# EAGLE library part FET_DMN2990UDJ-7 (library 0-micromouse2019)
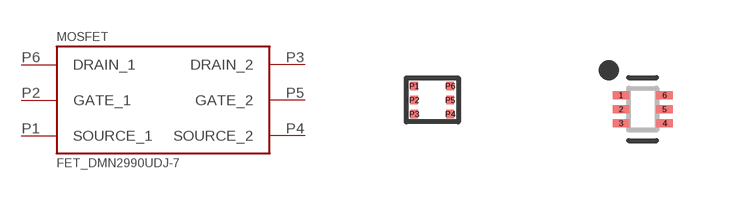
[diagram p0: symbol with the pads of DMN2990UDJ-7; footprints DMN2990UDJ-7, SOTFL35P100X50-6]

Designator prefix MOSFET

## FET_DMN2990UDJ-7OBSOLETE  [DMN2990UDJ-7]
P1  SOURCE_1  pas
P2  GATE_1  in
P3  DRAIN_2  pas
P4  SOURCE_2  pas
P5  GATE_2  in
P6  DRAIN_1  pas

## FET_DMN2990UDJ-7  [SOTFL35P100X50-6]
1  SOURCE_1  pas
2  GATE_1  in
3  DRAIN_2  pas
4  SOURCE_2  pas
5  GATE_2  in
6  DRAIN_1  pas

## Footprint DMN2990UDJ-7 (pad centres in mm)
SOT-963
smd 0.2 x 0.2: P1 -0.45,0.35; P2 -0.45,0; P3 -0.45,-0.35; P4 0.45,-0.35; P5 0.45,0; P6 0.45,0.35

## Footprint SOTFL35P100X50-6 (pad centres in mm)
6-SOTFL, 0.35 mm pitch, 1.00 mm span, 1.00 X 0.70 X 0.50 mm body 6-pin SOTFL package with 0.35 mm pitch, 1.00 mm span with body size 1.00 X 0.70 X 0.50 mm
smd 0.41 x 0.2: 1 -0.545,0.35; 2 -0.545,0; 3 -0.545,-0.35; 4 0.545,-0.35; 5 0.545,0; 6 0.545,0.35